# EAGLE library part OLED_0.96"_7PIN (library OLED_v01)
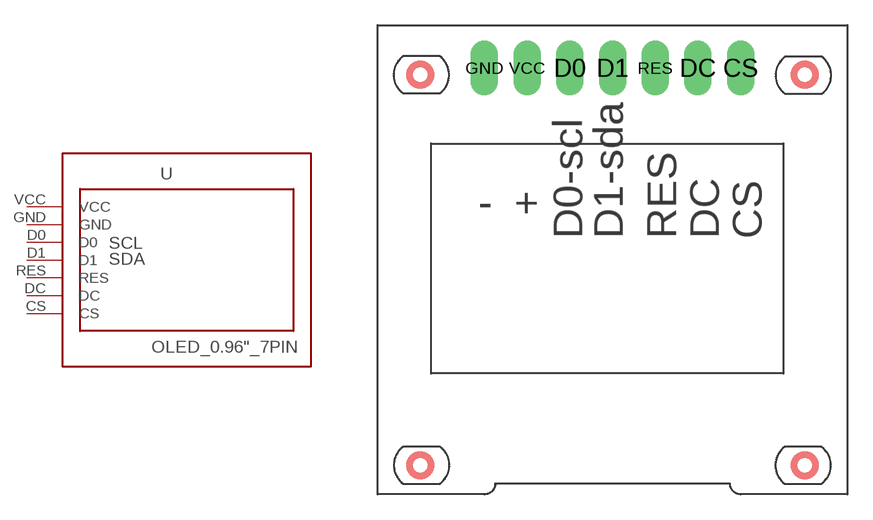
[diagram p0: symbol with the pads of OLED_7PIN; footprint OLED_7PIN]

Designator prefix -

## OLED_0.96"_7PIN  [OLED_7PIN]
CS  CS
D0  D0
D1  D1
DC  DC
GND  GND
RES  RES
VCC  VCC

## Footprint OLED_7PIN (pad centres in mm)
drill 0.813 pad 1.626 long: CS 7.62,0; D0 -2.54,0; D1 0,0; DC 5.08,0; GND -7.62,0; RES 2.54,0; VCC -5.08,0